# Altium footprint library lga-case.PcbLib: 2 footprints
Each footprint in its own frame and in the unit in brackets; x right, y up, seen from the top. Pads: shape width x height; smd on the part's side, far side on the other; paste and mask are expansions set on the pad; w line width, h text height; cw(c..) or ccw(c..) is an arc to the next point about the centre after c.
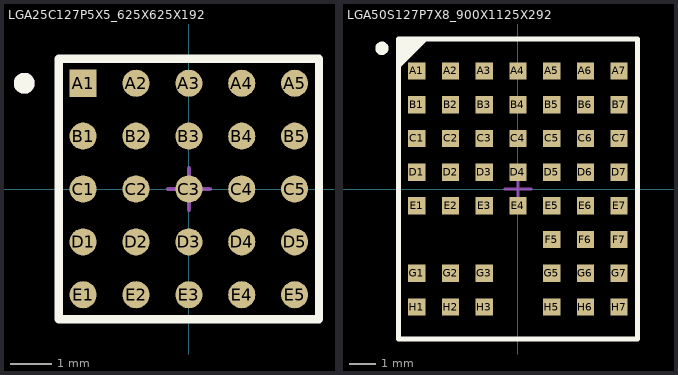
[diagram p0: the footprints below, top view; thin cyan lines are the x and y axes]

## LGA25C127P5X5_625X625X192 [mm] "LGA, 1.27mm Pitch, Square; 25 Pin, 5 Columns X 5 Rows, 6.25mm X 6.25mm X 1.92mm H"
height 1.92
pads (25):
  rect 0.65x0.65 smd: A1(-2.54,2.54)
  round 0.65 smd: A2(-1.27,2.54) A3(0,2.54) A4(1.27,2.54) A5(2.54,2.54) B1(-2.54,1.27) B2(-1.27,1.27) B3(0,1.27) B4(1.27,1.27) B5(2.54,1.27) C1(-2.54,0) C2(-1.27,0) C3(0,0) C4(1.27,0) C5(2.54,0) D1(-2.54,-1.27) D2(-1.27,-1.27) D3(0,-1.27) D4(1.27,-1.27) D5(2.54,-1.27) E1(-2.54,-2.54) E2(-1.27,-2.54) E3(0,-2.54) E4(1.27,-2.54) E5(2.54,-2.54)
Top Overlay:
  circle w0.25: c-3.955,2.54 r0.125
  lines w0.2: -3.125,-3.125 3.125,-3.125 3.125,3.125 -3.125,3.125 -3.125,-3.125
Mechanical 1:
  circle w0.25: c-3.955,2.54 r0.125
  lines w0.1: -3.125,-3.125 -3.125,3.125 3.125,3.125 3.125,-3.125 -3.125,-3.125
  text "1" at -2.6,3.5 h0.4
  text "2" at -1.4,3.5 h0.4
  text "3" at -0.14,3.5 h0.4
  text "4" at 1.12,3.5 h0.4
  text "5" at 2.4,3.5 h0.4
  text "E" at -3.8,-2.74 h0.4
  text "D" at -3.8,-1.47 h0.4
  text "C" at -3.8,-0.2 h0.4
  text "B" at -3.8,1.07 h0.4
  text "A" at -3.8,2.34 h0.4
Mechanical 15:
  lines w0.1: -0.5,0 0.5,0 ; 0,-0.5 0,0.5 ; -3.125,-3.125 -3.125,3.125 3.125,3.125 3.125,-3.125 -3.125,-3.125
3D body "LGA25C127P5X5_625X625X192.stp": height 1.92, standoff 0, extent -3.125,-3.125 3.125,3.125

## LGA50S127P7X8_900X1125X292 [mm] "LGA, 1.27mm pitch,rect.; 50 pin,7 columns X 8 rows, 9.00mm X 11.25mm X 2.92mm H"
height 2.92
pads (50):
  rect 0.65x0.65 smd: A1(-3.81,4.445) A2(-2.54,4.445) A3(-1.27,4.445) A4(0,4.445) A5(1.27,4.445) A6(2.54,4.445) A7(3.81,4.445) B1(-3.81,3.175) B2(-2.54,3.175) B3(-1.27,3.175) B4(0,3.175) B5(1.27,3.175) B6(2.54,3.175) B7(3.81,3.175) C1(-3.81,1.905) C2(-2.54,1.905) C3(-1.27,1.905) C4(0,1.905) C5(1.27,1.905) C6(2.54,1.905) C7(3.81,1.905) D1(-3.81,0.635) D2(-2.54,0.635) D3(-1.27,0.635) D4(0,0.635) D5(1.27,0.635) D6(2.54,0.635) D7(3.81,0.635) E1(-3.81,-0.635) E2(-2.54,-0.635) E3(-1.27,-0.635) E4(0,-0.635) E5(1.27,-0.635) E6(2.54,-0.635) E7(3.81,-0.635) F5(1.27,-1.905) F6(2.54,-1.905) F7(3.81,-1.905) G1(-3.81,-3.175) G2(-2.54,-3.175) G3(-1.27,-3.175) G5(1.27,-3.175) G6(2.54,-3.175) G7(3.81,-3.175) H1(-3.81,-4.445) H2(-2.54,-4.445) H3(-1.27,-4.445) H5(1.27,-4.445) H6(2.54,-4.445) H7(3.81,-4.445)
Top Overlay:
  circle w0.25: c-5.125,5.3 r0.125
  lines w0.2: -4.5,4.65 -3.5,5.65 ; -4.5,4.85 -3.7,5.65 ; -4.5,5.05 -3.9,5.65 ; -4.5,5.25 -4.1,5.65 ; -4.5,5.45 -4.3,5.65 ; -4.5,-5.65 -4.5,5.65 4.5,5.65 4.5,-5.65 -4.5,-5.65
Mechanical 1:
  lines w0.1: -4.5,4.65 -3.5,5.65 ; -4.5,4.75 -3.6,5.65 ; -4.5,4.85 -3.7,5.65 ; -4.5,4.95 -3.8,5.65 ; -4.5,5.05 -3.9,5.65 ; -4.5,5.15 -4,5.65 ; -4.5,5.25 -4.1,5.65 ; -4.5,5.35 -4.2,5.65 ; -4.5,5.45 -4.3,5.65 ; -4.5,5.55 -4.4,5.65 ; -4.5,-5.65 4.5,-5.65 4.5,5.65 -4.5,5.65 -4.5,-5.65
  text "H" at -5.016,-4.553 h0.4
  text "G" at -5.016,-3.283 h0.4
  text "F" at -5.016,-2.013 h0.4
  text "E" at -5.016,-0.743 h0.4
  text "D" at -5.016,0.527 h0.4
  text "C" at -5.016,1.797 h0.4
  text "B" at -5.016,3.067 h0.4
  text "A" at -5.016,4.337 h0.4
  text "6" at 2.477,5.988 h0.4
  text "5" at 1.207,5.988 h0.4
  text "4" at -0.063,5.988 h0.4
  text "7" at 3.747,5.988 h0.4
  text "3" at -1.333,5.988 h0.4
  text "2" at -2.603,5.988 h0.4
  text "1" at -3.873,5.988 h0.4
Mechanical 15:
  lines w0.1: -0.5,0 0.5,0 ; 0,-0.5 0,0.5 ; -4.5,-5.65 -4.5,5.65 4.5,5.65 4.5,-5.65 -4.5,-5.65
3D body "LGA50S127P7X8_900X1125X292.stp": height 2.92, standoff 0, extent -4.5,-5.625 4.5,5.625